# Altium schematic symbol library decawave-lib.SchLib: 11 symbols
Pins are listed as number, name and electrical type; pins without a type are passive.

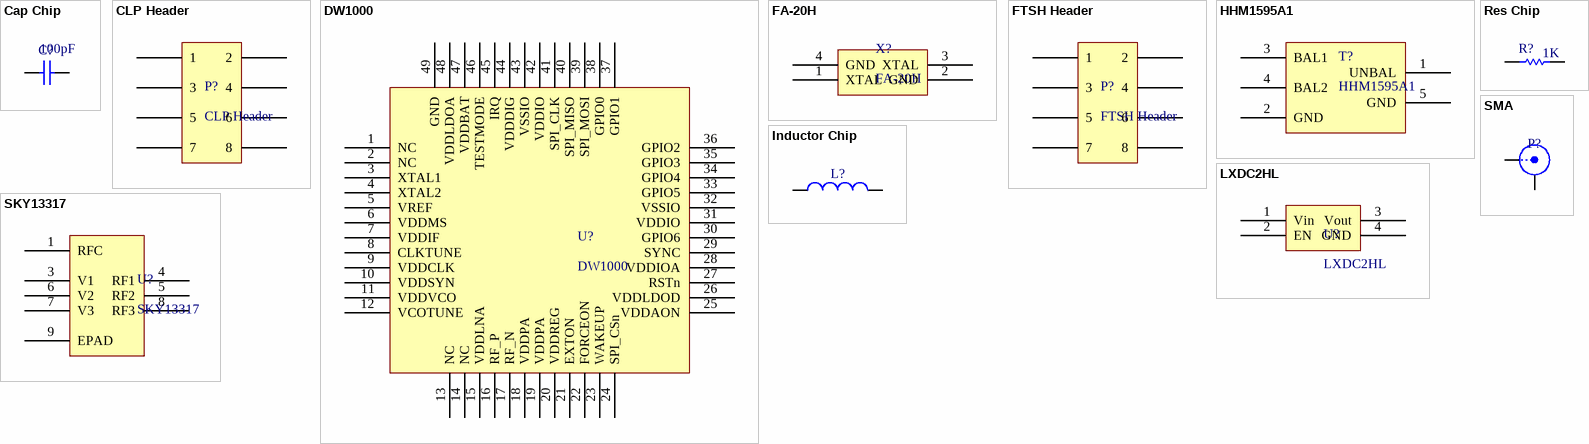
[diagram p0: symbols Cap Chip to SMA]

## Cap Chip
designator C?  value 100pF  (hidden comment: Cap Chip)
Capacitor (Semiconductor SIM Model); Published: 8-Jun-2000; LatestRevisionDate: 29-May-2009; LatestRevisionNote: IPC-7351 Footprint Added.; PackageReference: C1206; Publisher: Altium Limited; PackageDescription: Chip Capacitor
footprint 0603 (Chip Capacitor, Body 1.6x0.8mm, IPC High Density)
footprint 0805 (Chip Resistor, Body 2.0x1.2mm, IPC High Density)
footprint 0402 (Chip Capacitor, Body 1.0x0.5mm, IPC High Density)
footprint 1206 (Chip Capacitor, Body 3.2x2.5mm, IPC High Density)
footprint 1210 (Chip Capacitor, Body 3.2x2.5mm, IPC High Density)
footprint 0201 (Chip Capacitor, Body 1.0x0.5mm, IPC High Density)
pins: 1, 2

## CLP Header
designator P?
Samtec CLP 2x4 0.05" Female Header
footprint SAM_CLP_2_4
pins: 1, 2, 3, 4, 5, 6, 7, 8

## DW1000
designator U?
DistPartNo: 1479-1001-1-ND; ManPartNo: DW1000-I-TR13
footprint 48QFN-EP (QFN, 48-Leads, Body 6.00x6.00mm, Pitch 0.40mm, Thermal Pad 4.10x4.10mm, IPC Medium Density)
pins: 1 NC, 2 NC, 3 XTAL1, 4 XTAL2, 5 VREF, 6 VDDMS, 7 VDDIF, 8 CLKTUNE, 9 VDDCLK, 10 VDDSYN, 11 VDDVCO, 12 VCOTUNE, 13 NC, 14 NC, 15 VDDLNA, 16 RF_P, 17 RF_N, 18 VDDPA, 19 VDDPA, 20 VDDREG, 21 EXTON, 22 FORCEON, 23 WAKEUP, 24 SPI_CSn, 25 VDDAON, 26 VDDLDOD, 27 RSTn, 28 VDDIOA, 29 SYNC, 30 GPIO6, 31 VDDIO, 32 VSSIO, 33 GPIO5, 34 GPIO4, 35 GPIO3, 36 GPIO2, 37 GPIO1, 38 GPIO0, 39 SPI_MOSI, 40 SPI_MISO, 41 SPI_CLK, 42 VDDIO, 43 VSSIO, 44 VDDDIG, 45 IRQ, 46 TESTMODE, 47 VDDBAT, 48 VDDLDOA, 49 GND

## FA-20H
designator X?
2.5 mm x 2.0 mm SMD Crystal; DistPartNo: SER3631CT-ND; ManPartNo: FA-20H 38.4000MF10Z-AS3
footprint FA-20H
pins: 1 XTAL, 2 GND, 3 XTAL, 4 GND

## FTSH Header
designator P?
Samtec FTSH 2x4 0.05" Male Header
footprint SAM_FTSH_2_4
pins: 1, 2, 3, 4, 5, 6, 7, 8

## HHM1595A1
designator T?
UWB Balun; DistPartNo: 445-3387-1-ND; ManPartNo: HHM1595A1
footprint HHM 0805
pins: 1 UNBAL, 2 GND, 3 BAL1, 4 BAL2, 5 GND

## Inductor Chip
designator L?  (value not drawn)
Surface-mount inductor
footprint 1210 (Chip Capacitor, Body 3.2x2.5mm, IPC High Density)
footprint 0805 (Chip Resistor, Body 2.0x1.2mm, IPC High Density)
footprint 0603 (Chip Capacitor, Body 1.6x0.8mm, IPC High Density)
footprint 0402 (Chip Capacitor, Body 1.0x0.5mm, IPC High Density)
footprint 0201 (Chip Capacitor, Body 1.0x0.5mm, IPC High Density)
pins: 1, 2

## LXDC2HL
designator U?
DistPartNo: 490-5791-1-ND; ManPartNo: LXDC2HL18A-052
footprint LXDC2HL
pins: 1 Vin, 2 EN, 3 Vout, 4 GND

## Res Chip
designator R?  value 1K  (hidden comment: Res Chip)
Surface-mount resistor; Published: 8-Jun-2000; LatestRevisionDate: 17-Jul-2002; LatestRevisionNote: Re-released for DXP Platform.; PackageReference: AXIAL-0.5; Publisher: Altium Limited; PackageDescription: Axial Device, Thru-Hole; 2 Leads; 0.5 in Pin Spacing
footprint 0603 (Chip Capacitor, Body 1.6x0.8mm, IPC High Density)
footprint 0805 (Chip Resistor, Body 2.0x1.2mm, IPC High Density)
footprint 1210 (Chip Resistor, Body 3.2x2.5mm, IPC High Density)
footprint 0402 (Chip Capacitor, Body 1.0x0.5mm, IPC High Density)
pins: 1, 2

## SKY13317
designator U?
SP3T RF Switch; DistPartNo: 863-1056-1-ND; ManPartNo: SKY13317-373LF
footprint MLPQ-UT-8
pins: 1 RFC, 3 V1, 4 RF1, 5 RF2, 6 V2, 7 V3, 8 RF3, 9 EPAD

## SMA
designator P?  (value not drawn)
DistPartNo: A101960-ND; ManPartNo: 1-1478979-0
footprint SMA_VERT
footprint SMA_EDGE
footprint U.FL Male Jack
pins: 1 X, 2 Y